# Altium footprint library Optical.PcbLib: 2 footprints
Each footprint in its own frame and in the unit in brackets; x right, y up, seen from the top. Pads: shape width x height; smd on the part's side, far side on the other; paste and mask are expansions set on the pad; w line width, h text height; cw(c..) or ccw(c..) is an arc to the next point about the centre after c.
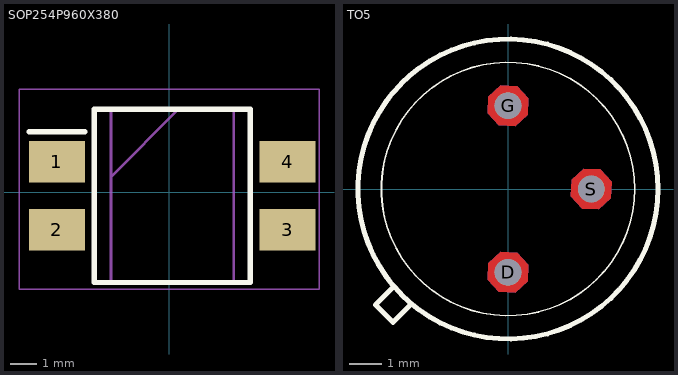
[diagram p0: the footprints below, top view; thin cyan lines are the x and y axes]

## SOP254P960X380 [mm]
pads (4):
  rect 2.1x1.55 smd: 1(-4.202,1.143) 2(-4.202,-1.397) 3(4.448,-1.397) 4(4.448,1.143)
Top Overlay:
  lines w0.2: -5.252,2.268 -3.152,2.268 ; -2.802,-3.377 3.048,-3.377 3.048,3.123 -2.802,3.123 -2.802,-3.377
Mechanical 15:
  lines w0.1: -2.177,0.583 0.363,3.123 ; -2.177,-3.377 2.423,-3.377 2.423,3.123 -2.177,3.123 -2.177,-3.377
Mechanical 20:
  lines w0.05: -5.625,-3.623 5.625,-3.623 5.625,3.877 -5.625,3.877 -5.625,-3.623
3D body "PS2501L-1-A.stp": height 3.8, standoff 0, extent -4.673,-3.44 4.927,3.06

## TO5 [mil]
pads (3):
  round 32 hole 32: D(0,-100) G(0,100) S(100,0)
Top Layer:
  region: 24.43,108.89 10.99,123.56 -8.89,124.43 -23.56,110.99 -24.43,91.11 -10.99,76.44 8.89,75.57 23.56,89.01
  region: 124.43,8.89 110.99,23.56 91.11,24.43 76.44,10.99 75.57,-8.89 89.01,-23.56 108.89,-24.43 123.56,-10.99
  region: 24.43,-91.11 10.99,-76.44 -8.89,-75.57 -23.56,-89.01 -24.43,-108.89 -10.99,-123.56 8.89,-124.43 23.56,-110.99
Bottom Layer:
  region: 24.43,108.89 10.99,123.56 -8.89,124.43 -23.56,110.99 -24.43,91.11 -10.99,76.44 8.89,75.57 23.56,89.01
  region: 124.43,8.89 110.99,23.56 91.11,24.43 76.44,10.99 75.57,-8.89 89.01,-23.56 108.89,-24.43 123.56,-10.99
  region: 24.43,-91.11 10.99,-76.44 -8.89,-75.57 -23.56,-89.01 -24.43,-108.89 -10.99,-123.56 8.89,-124.43 23.56,-110.99
Top Overlay:
  circle w2: c0,0 r152
  circle w6: c0,0 r180
  lines w6: -138,-118 -159,-139 -138,-160 -117,-139
Multi-Layer:
  region: 24.43,108.89 10.99,123.56 -8.89,124.43 -23.56,110.99 -24.43,91.11 -10.99,76.44 8.89,75.57 23.56,89.01
  region: 124.43,8.89 110.99,23.56 91.11,24.43 76.44,10.99 75.57,-8.89 89.01,-23.56 108.89,-24.43 123.56,-10.99
  region: 24.43,-91.11 10.99,-76.44 -8.89,-75.57 -23.56,-89.01 -24.43,-108.89 -10.99,-123.56 8.89,-124.43 23.56,-110.99
3D body "PIR_S_Orginal.STEP": height 185.04, standoff -78.74, extent -178.08,-179.13 180.19,179.13